# EAGLE library part DF11CZ-40DP-2V(27) (library hirose)
HEADER, 2MM, SMT, 40WAY
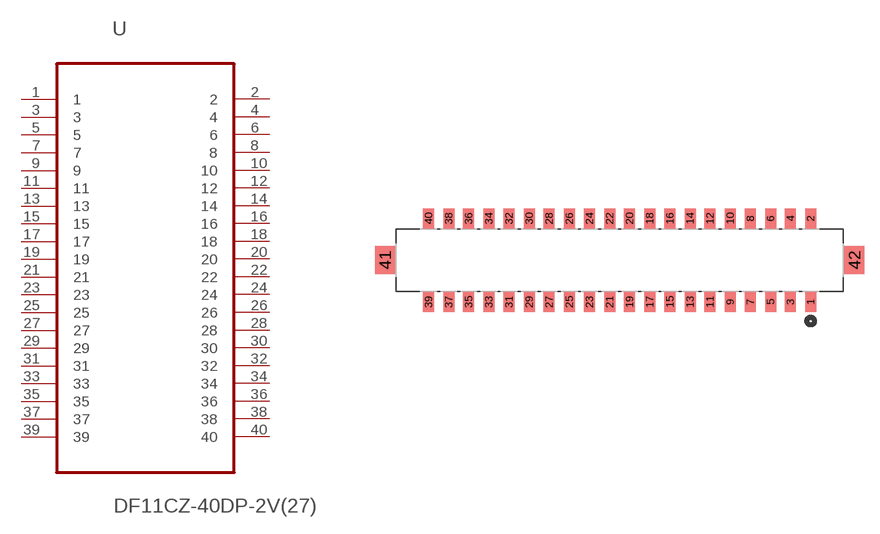
[diagram p0: symbol with the pads of HIROSE_DF11CZ-40DP-2V(27); footprint HIROSE_DF11CZ-40DP-2V(27)]

Designator prefix U

## DF11CZ-40DP-2V(27) (MPN: DF11CZ-40DP-2V(27); OC_FARNELL: 1688392; OC_NEWARK: 49P5090; PACKAGE: HEADER, 2MM, SMT, 40WAY; SUPPLIER: Hirose)  [HIROSE_DF11CZ-40DP-2V(27)]
1  1  pas
2  2  pas
3  3  pas
4  4  pas
5  5  pas
6  6  pas
7  7  pas
8  8  pas
9  9  pas
10  10  pas
11  11  pas
12  12  pas
13  13  pas
14  14  pas
15  15  pas
16  16  pas
17  17  pas
18  18  pas
19  19  pas
20  20  pas
21  21  pas
22  22  pas
23  23  pas
24  24  pas
25  25  pas
26  26  pas
27  27  pas
28  28  pas
29  29  pas
30  30  pas
31  31  pas
32  32  pas
33  33  pas
34  34  pas
35  35  pas
36  36  pas
37  37  pas
38  38  pas
39  39  pas
40  40  pas

## Footprint HIROSE_DF11CZ-40DP-2V(27) (pad centres in mm)
smd 1.092 x 2.007: 1 37.998,-8.306; 2 37.998,0; 3 35.992,-8.306; 4 35.992,0; 5 34.011,-8.306; 6 34.011,0; 7 32.004,-8.306; 8 32.004,0; 9 29.997,-8.306; 10 29.997,0; 11 27.991,-8.306; 12 27.991,0; 13 26.01,-8.306; 14 26.01,0; 15 24.003,-8.306; 16 24.003,0; 17 21.996,-8.306; 18 21.996,0; 19 19.99,-8.306; 20 19.99,0; 21 18.009,-8.306; 22 18.009,0; 23 16.002,-8.306; 24 16.002,0; 25 13.995,-8.306; 26 13.995,0; 27 11.989,-8.306; 28 11.989,0; 29 10.008,-8.306; 30 10.008,0; 31 8.001,-8.306; 32 8.001,0; 33 5.994,-8.306; 34 5.994,0; 35 3.988,-8.306; 36 3.988,0; 37 2.007,-8.306; 38 2.007,0; 39 0,-8.306; 40 0,0
smd 2.007 x 2.794: 41 -4.343,-4.14; 42 42.342,-4.14